# Altium schematic symbol library TPS7A1633QDGNRQ1.Schlib: 1 symbol
Pins are listed as number, name and electrical type; pins without a type are passive.

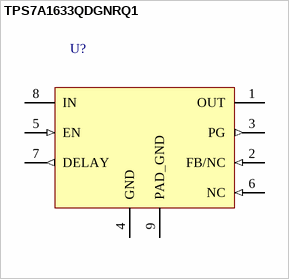
[diagram p0: symbol TPS7A1633QDGNRQ1]

## TPS7A1633QDGNRQ1
designator U?
LDO Voltage Regulators AC 60V 5uA IQ LDO 10 0mA Linear Reg
pins: 1 OUT (power), 2 FB/NC (in), 3 PG (out), 4 GND (power), 5 EN (in), 6 NC (in), 7 DELAY (out), 8 IN (power), 9 PAD_GND (power)